# EAGLE library part PPU (library TinyNES_Library)
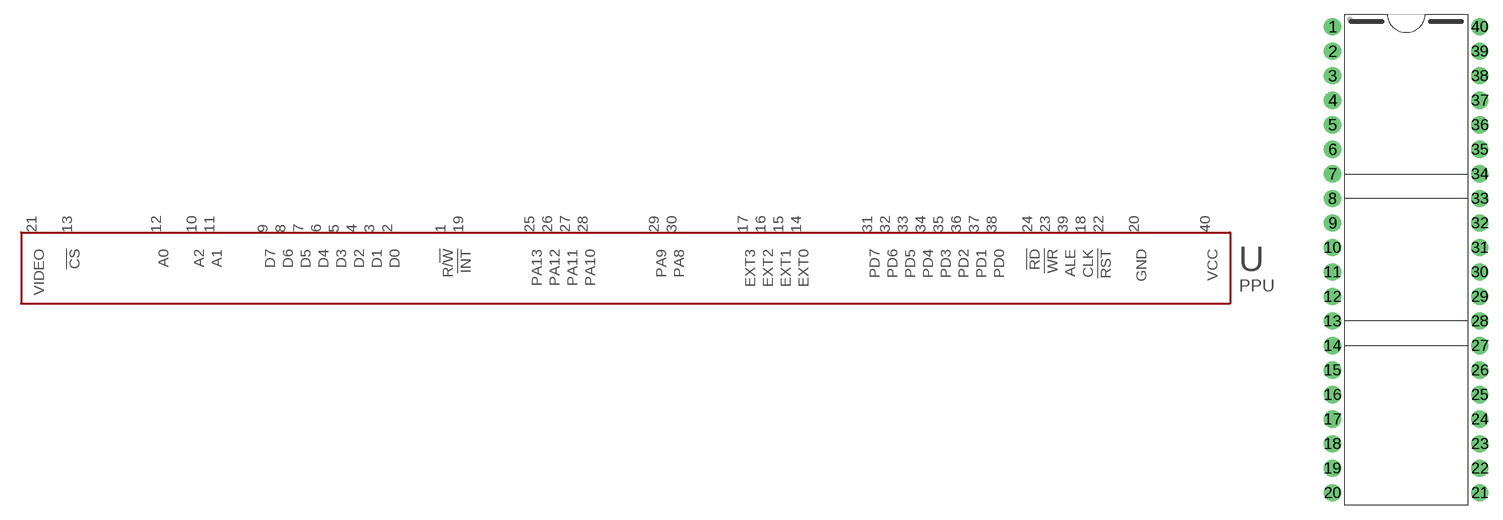
[diagram p7: symbol with the pads of DIP-40; footprint DIP-40]

Designator prefix U

## PPU  [DIP-40]
1  R/!W
2  D0
3  D1
4  D2
5  D3
6  D4
7  D5
8  D6
9  D7
10  A2
11  A1
12  A0
13  !CS
14  EXT0
15  EXT1
16  EXT2
17  EXT3
18  CLK
19  !INT
20  GND
21  VIDEO
22  !RST
23  !WR
24  !RD
25  PA13
26  PA12
27  PA11
28  PA10
29  PA9
30  PA8
31  PD7
32  PD6
33  PD5
34  PD4
35  PD3
36  PD2
37  PD1
38  PD0
39  ALE
40  VCC

## Footprint DIP-40 (pad centres in mm)
drill 1.016 pad 1.778: 1 -7.62,24.13; 2 -7.62,21.59; 3 -7.62,19.05; 4 -7.62,16.51; 5 -7.62,13.97; 6 -7.62,11.43; 7 -7.62,8.89; 8 -7.62,6.35; 9 -7.62,3.81; 10 -7.62,1.27; 11 -7.62,-1.27; 12 -7.62,-3.81; 13 -7.62,-6.35; 14 -7.62,-8.89; 15 -7.62,-11.43; 16 -7.62,-13.97; 17 -7.62,-16.51; 18 -7.62,-19.05; 19 -7.62,-21.59; 20 -7.62,-24.13; 21 7.62,-24.13; 22 7.62,-21.59; 23 7.62,-19.05; 24 7.62,-16.51; 25 7.62,-13.97; 26 7.62,-11.43; 27 7.62,-8.89; 28 7.62,-6.35; 29 7.62,-3.81; 30 7.62,-1.27; 31 7.62,1.27; 32 7.62,3.81; 33 7.62,6.35; 34 7.62,8.89; 35 7.62,11.43; 36 7.62,13.97; 37 7.62,16.51; 38 7.62,19.05; 39 7.62,21.59; 40 7.62,24.13